# EAGLE library part MC14553BCPG (library ON Semiconductor_By_element14_Batch_1)
3-Digit BCD Counter
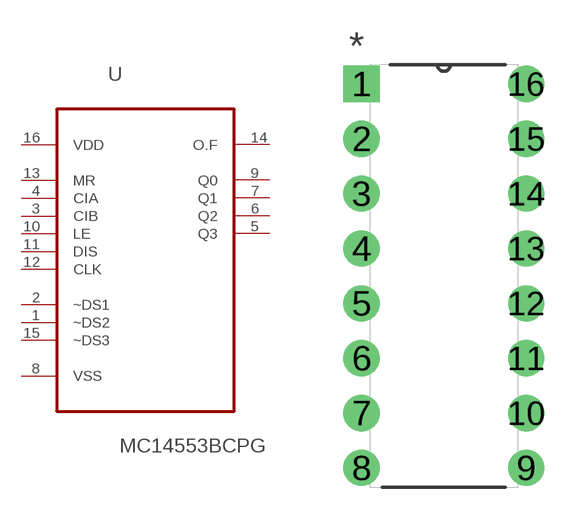
[diagram p300: symbol with the pads of DIP254P762X444-16; footprint DIP254P762X444-16]

Designator prefix U

## MC14553BCPG (MPN: MC14553BCPG; OC_FARNELL: -; OC_NEWARK: 45J1131; PACKAGE: PDIP-16; SUPPLIER: On semiconductors)  [DIP254P762X444-16]
1  ~DS2  pas
2  ~DS1  pas
3  CIB  in
4  CIA  in
5  Q3  out
6  Q2  out
7  Q1  out
8  VSS  pwr
9  Q0  out
10  LE  in
11  DIS  in
12  CLK  in
13  MR  in
14  O.F  out
15  ~DS3  pas
16  VDD  pwr

## Footprint DIP254P762X444-16 (pad centres in mm)
drill 1.118 square: 1 -7.62,17.78
drill 1.118: 2 -7.62,15.24; 3 -7.62,12.7; 4 -7.62,10.16; 5 -7.62,7.62; 6 -7.62,5.08; 7 -7.62,2.54; 8 -7.62,0; 9 0,0; 10 0,2.54; 11 0,5.08; 12 0,7.62; 13 0,10.16; 14 0,12.7; 15 0,15.24; 16 0,17.78